# Altium schematic symbol library 74xx.SchLib: 245 symbols (part 2 of 2)
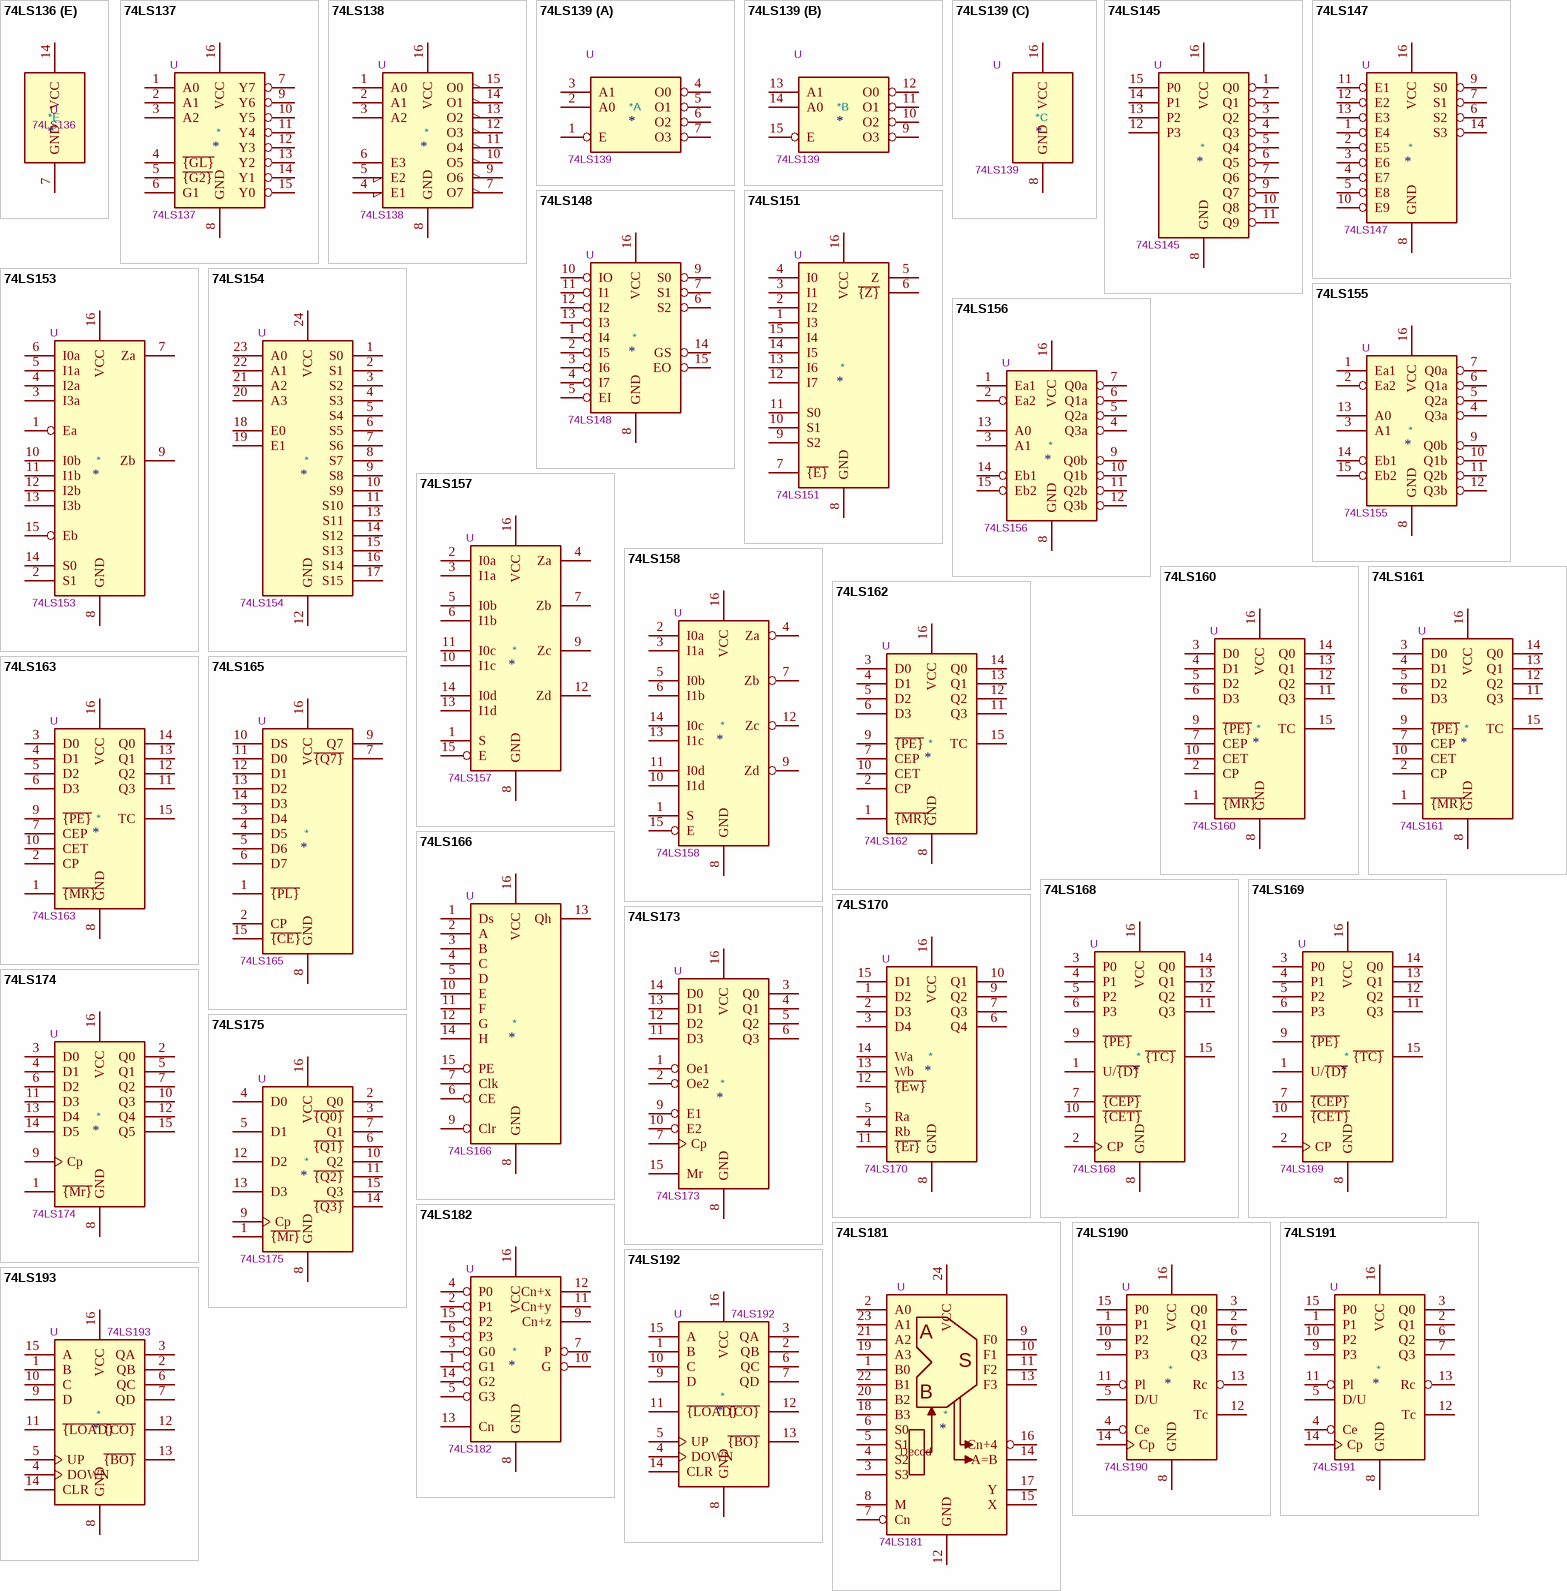
[diagram p14: symbols 74LS136 to 74LS193]

## 74LS136
designator *  value 74LS136  Reference: U
ki_keywords: TTL XOR2 OpenCol; ki_description: Quad 2-input XOR Open Collector; ki_fp_filters: DIP*W7.62mm*; Datasheet: http://www.ti.com/lit/ds/symlink/sn54ls136.pdf
part A pins: 1, 2, 3
part B pins: 4, 5, 6
part C pins: 8, 9, 10
part D pins: 11, 12, 13
part E pins: 7 GND, 14 VCC

## 74LS137
designator *  value 74LS137  Reference: U
ki_keywords: TTL DECOD8 DECOD; ki_description: Decoder 3 to 8, address latches; ki_fp_filters: DIP?16*; Datasheet: http://www.ti.com/lit/gpn/sn74LS137
pins: 1 A0, 2 A1, 3 A2, 4 ~{{GL}}, 5 ~{{G2}}, 6 G1, 7 Y7, 8 GND, 9 Y6, 10 Y5, 11 Y4, 12 Y3, 13 Y2, 14 Y1, 15 Y0, 16 VCC

## 74LS138
designator *  value 74LS138  Reference: U
ki_keywords: TTL DECOD DECOD8; ki_description: Decoder 3 to 8 active low outputs; ki_fp_filters: DIP?16*; Datasheet: http://www.ti.com/lit/gpn/sn74LS138
pins: 1 A0, 2 A1, 3 A2, 4 E1, 5 E2, 6 E3, 7 O7, 8 GND, 9 O6, 10 O5, 11 O4, 12 O3, 13 O2, 14 O1, 15 O0, 16 VCC

## 74LS139
designator *  value 74LS139  Reference: U
ki_keywords: TTL DECOD4; ki_description: Dual Decoder 1 of 4, Active low outputs; ki_fp_filters: DIP?16*; Datasheet: http://www.ti.com/lit/ds/symlink/sn74ls139a.pdf
part A pins: 1 E, 2 A0, 3 A1, 4 O0, 5 O1, 6 O2, 7 O3
part B pins: 9 O3, 10 O2, 11 O1, 12 O0, 13 A1, 14 A0, 15 E
part C pins: 8 GND, 16 VCC

## 74LS145
designator *  value 74LS145  Reference: U
ki_keywords: TTL DECOD10 OpenColl; ki_description: Decoder 1 to 10, Open Collector; ki_fp_filters: DIP?16*; Datasheet: http://www.ti.com/lit/gpn/sn74LS145
pins: 1 Q0, 2 Q1, 3 Q2, 4 Q3, 5 Q4, 6 Q5, 7 Q6, 8 GND, 9 Q7, 10 Q8, 11 Q9, 12 P3, 13 P2, 14 P1, 15 P0, 16 VCC

## 74LS147
designator *  value 74LS147  Reference: U
ki_keywords: TTL ENCOD; ki_description: Priority Encoder, 10 to 4; ki_fp_filters: DIP?16*; Datasheet: http://www.ti.com/lit/gpn/sn74LS147
pins: 1 E4, 2 E5, 3 E6, 4 E7, 5 E8, 6 S2, 7 S1, 8 GND, 9 S0, 10 E9, 11 E1, 12 E2, 13 E3, 14 S3, 16 VCC

## 74LS148
designator *  value 74LS148  Reference: U
ki_keywords: TTL ENCOD; ki_description: Priority Encoder 3 to 8 cascadable; ki_fp_filters: DIP?16*; Datasheet: http://www.ti.com/lit/gpn/sn74LS148
pins: 1 I4, 2 I5, 3 I6, 4 I7, 5 EI, 6 S2, 7 S1, 8 GND, 9 S0, 10 IO, 11 I1, 12 I2, 13 I3, 14 GS, 15 EO, 16 VCC

## 74LS151
designator *  value 74LS151  Reference: U
ki_keywords: TTL MUX8; ki_description: Multiplexer 8 to 1; ki_fp_filters: DIP?16*; Datasheet: http://www.ti.com/lit/gpn/sn74LS151
pins: 1 I3, 2 I2, 3 I1, 4 I0, 5 Z, 6 ~{{Z}}, 7 ~{{E}}, 8 GND, 9 S2, 10 S1, 11 S0, 12 I7, 13 I6, 14 I5, 15 I4, 16 VCC

## 74LS153
designator *  value 74LS153  Reference: U
ki_keywords: TTL Mux4; ki_description: Dual Multiplexer 4 to 1; ki_fp_filters: DIP?16*; Datasheet: http://www.ti.com/lit/gpn/sn74LS153
pins: 1 Ea, 2 S1, 3 I3a, 4 I2a, 5 I1a, 6 I0a, 7 Za, 8 GND, 9 Zb, 10 I0b, 11 I1b, 12 I2b, 13 I3b, 14 S0, 15 Eb, 16 VCC

## 74LS154
designator *  value 74LS154  Reference: U
ki_keywords: TTL DECOD16 DECOD; ki_description: Decoder 4 to 16; ki_fp_filters: DIP?24*; Datasheet: http://www.ti.com/lit/gpn/sn74LS154
pins: 1 S0, 2 S1, 3 S2, 4 S3, 5 S4, 6 S5, 7 S6, 8 S7, 9 S8, 10 S9, 11 S10, 12 GND, 13 S11, 14 S12, 15 S13, 16 S14, 17 S15, 18 E0, 19 E1, 20 A3, 21 A2, 22 A1, 23 A0, 24 VCC

## 74LS155
designator *  value 74LS155  Reference: U
ki_keywords: TTL DECOD8 DECOD4 DEMUX4 DEMUX8 DEMUX DECOD; ki_description: Dual 2 to 4 lines Decoder/Demultiplexer; ki_fp_filters: DIP?16*; Datasheet: http://www.ti.com/lit/gpn/sn74LS155
pins: 1 Ea1, 2 Ea2, 3 A1, 4 Q3a, 5 Q2a, 6 Q1a, 7 Q0a, 8 GND, 9 Q0b, 10 Q1b, 11 Q2b, 12 Q3b, 13 A0, 14 Eb1, 15 Eb2, 16 VCC

## 74LS156
designator *  value 74LS156  Reference: U
ki_keywords: TTL DECOD8 DECOD4 DEMUX4 DEMUX8 OpenCol; ki_description: Dual 2 to 4 lines Decoder/Demultiplexer, Open Collector; ki_fp_filters: DIP?16*; Datasheet: http://www.ti.com/lit/gpn/sn74LS156
pins: 1 Ea1, 2 Ea2, 3 A1, 4 Q3a, 5 Q2a, 6 Q1a, 7 Q0a, 8 GND, 9 Q0b, 10 Q1b, 11 Q2b, 12 Q3b, 13 A0, 14 Eb1, 15 Eb2, 16 VCC

## 74LS157
designator *  value 74LS157  Reference: U
ki_keywords: TTL MUX MUX2; ki_description: Quad 2 to 1 line Multiplexer; ki_fp_filters: DIP?16*; Datasheet: http://www.ti.com/lit/gpn/sn74LS157
pins: 1 S, 2 I0a, 3 I1a, 4 Za, 5 I0b, 6 I1b, 7 Zb, 8 GND, 9 Zc, 10 I1c, 11 I0c, 12 Zd, 13 I1d, 14 I0d, 15 E, 16 VCC

## 74LS158
designator *  value 74LS158  Reference: U
ki_keywords: TTL Mux MUX2; ki_description: Quad 2 to 1 multiplexer; ki_fp_filters: DIP?16*; Datasheet: http://www.ti.com/lit/gpn/sn74LS158
pins: 1 S, 2 I0a, 3 I1a, 4 Za, 5 I0b, 6 I1b, 7 Zb, 8 GND, 9 Zd, 10 I1d, 11 I0d, 12 Zc, 13 I1c, 14 I0c, 15 E, 16 VCC

## 74LS160
designator *  value 74LS160  Reference: U
ki_keywords: TTL CNT CNT4; ki_description: Synchronous 4-bit programmable decimal Counter; ki_fp_filters: DIP?16*; Datasheet: http://www.ti.com/lit/gpn/sn74LS160
pins: 1 ~{{MR}}, 2 CP, 3 D0, 4 D1, 5 D2, 6 D3, 7 CEP, 8 GND, 9 ~{{PE}}, 10 CET, 11 Q3, 12 Q2, 13 Q1, 14 Q0, 15 TC, 16 VCC

## 74LS161
designator *  value 74LS161  Reference: U
ki_keywords: TTL CNT CNT4; ki_description: Synchronous 4-bit programmable binary Counter; ki_fp_filters: DIP?16*; Datasheet: http://www.ti.com/lit/gpn/sn74LS161
pins: 1 ~{{MR}}, 2 CP, 3 D0, 4 D1, 5 D2, 6 D3, 7 CEP, 8 GND, 9 ~{{PE}}, 10 CET, 11 Q3, 12 Q2, 13 Q1, 14 Q0, 15 TC, 16 VCC

## 74LS162
designator *  value 74LS162  Reference: U
ki_keywords: TTL CNT CNT4; ki_description: Synchronous 4-bit programmable decimal Counter; ki_fp_filters: DIP?16*; Datasheet: http://www.ti.com/lit/gpn/sn74LS162
pins: 1 ~{{MR}}, 2 CP, 3 D0, 4 D1, 5 D2, 6 D3, 7 CEP, 8 GND, 9 ~{{PE}}, 10 CET, 11 Q3, 12 Q2, 13 Q1, 14 Q0, 15 TC, 16 VCC

## 74LS163
designator *  value 74LS163  Reference: U
ki_keywords: TTL CNT CNT4; ki_description: Synchronous 4-bit programmable binary Counter; ki_fp_filters: DIP?16*; Datasheet: http://www.ti.com/lit/gpn/sn74LS163
pins: 1 ~{{MR}}, 2 CP, 3 D0, 4 D1, 5 D2, 6 D3, 7 CEP, 8 GND, 9 ~{{PE}}, 10 CET, 11 Q3, 12 Q2, 13 Q1, 14 Q0, 15 TC, 16 VCC

## 74LS165
designator *  value 74LS165  Reference: U
ki_keywords: TTL SR SR8; ki_description: Shift Register 8-bit, parallel load; ki_fp_filters: DIP?16* SO*16*3.9x9.9mm*P1.27mm* SSOP*16*5.3x6.2mm*P0.65mm* TSSOP*16*4.4x5mm*P0.65*; Datasheet: https://www.ti.com/lit/ds/symlink/sn74ls165a.pdf
pins: 1 ~{{PL}}, 2 CP, 3 D4, 4 D5, 5 D6, 6 D7, 7 ~{{Q7}}, 8 GND, 9 Q7, 10 DS, 11 D0, 12 D1, 13 D2, 14 D3, 15 ~{{CE}}, 16 VCC

## 74LS166
designator *  value 74LS166  Reference: U
ki_keywords: TTL SR SR8; ki_description: Shift Register 8-bit, parallel load; ki_fp_filters: DIP?16*; Datasheet: http://www.ti.com/lit/gpn/sn74LS166
pins: 1 Ds, 2 A, 3 B, 4 C, 5 D, 6 CE, 7 Clk, 8 GND, 9 Clr, 10 E, 11 F, 12 G, 13 Qh, 14 H, 15 PE, 16 VCC

## 74LS168
designator *  value 74LS168  Reference: U
ki_keywords: TTL CNT CNT4; ki_description: Synchronous 4-bit Up/Down Decimal counter; ki_fp_filters: DIP?16*; Datasheet: http://www.ti.com/lit/gpn/sn74LS168
pins: 1 U/~{{D}}, 2 CP, 3 P0, 4 P1, 5 P2, 6 P3, 7 ~{{CEP}}, 8 GND, 9 ~{{PE}}, 10 ~{{CET}}, 11 Q3, 12 Q2, 13 Q1, 14 Q0, 15 ~{{TC}}, 16 VCC

## 74LS169
designator *  value 74LS169  Reference: U
ki_keywords: TTL CNT CNT4; ki_description: Synchronous 4-bit Up/Down binary counter; ki_fp_filters: DIP?16*; Datasheet: http://www.ti.com/lit/gpn/sn74LS169
pins: 1 U/~{{D}}, 2 CP, 3 P0, 4 P1, 5 P2, 6 P3, 7 ~{{CEP}}, 8 GND, 9 ~{{PE}}, 10 ~{{CET}}, 11 Q3, 12 Q2, 13 Q1, 14 Q0, 15 ~{{TC}}, 16 VCC

## 74LS170
designator *  value 74LS170  Reference: U
ki_keywords: TTL Register OpenCol; ki_description: 4 x 4 Register Files Open Collector; ki_fp_filters: DIP?16*; Datasheet: http://www.ti.com/lit/gpn/sn74LS170
pins: 1 D2, 2 D3, 3 D4, 4 Rb, 5 Ra, 6 Q4, 7 Q3, 8 GND, 9 Q2, 10 Q1, 11 ~{{Er}}, 12 ~{{Ew}}, 13 Wb, 14 Wa, 15 D1, 16 VCC

## 74LS173
designator *  value 74LS173  Reference: U
ki_keywords: TTL REG REG4 3State DFF; ki_description: 4-bit D-type Register, 3 state out; ki_fp_filters: DIP?16*; Datasheet: http://www.ti.com/lit/gpn/sn74LS173
pins: 1 Oe1, 2 Oe2, 3 Q0, 4 Q1, 5 Q2, 6 Q3, 7 Cp, 8 GND, 9 E1, 10 E2, 11 D3, 12 D2, 13 D1, 14 D0, 15 Mr, 16 VCC

## 74LS174
designator *  value 74LS174  Reference: U
ki_keywords: TTL REG REG6 DFF; ki_description: Hex D-type Flip-Flop, reset; ki_fp_filters: DIP?16*; Datasheet: http://www.ti.com/lit/gpn/sn74LS174
pins: 1 ~{{Mr}}, 2 Q0, 3 D0, 4 D1, 5 Q1, 6 D2, 7 Q2, 8 GND, 9 Cp, 10 Q3, 11 D3, 12 Q4, 13 D4, 14 D5, 15 Q5, 16 VCC

## 74LS175
designator *  value 74LS175  Reference: U
ki_keywords: TTL REG REG4 DFF; ki_description: 4-bit D Flip-Flop, reset; ki_fp_filters: DIP?16*; Datasheet: http://www.ti.com/lit/gpn/sn74LS175
pins: 1 ~{{Mr}}, 2 Q0, 3 ~{{Q0}}, 4 D0, 5 D1, 6 ~{{Q1}}, 7 Q1, 8 GND, 9 Cp, 10 Q2, 11 ~{{Q2}}, 12 D2, 13 D3, 14 ~{{Q3}}, 15 Q3, 16 VCC

## 74LS181
designator *  value 74LS181  Reference: U
ki_keywords: TTL ALU ARITH; ki_description: Arithmetic logic unit; ki_fp_filters: DIP?24*; Datasheet: 74xx/74F181.pdf
pins: 1 B0, 2 A0, 3 S3, 4 S2, 5 S1, 6 S0, 7 Cn, 8 M, 9 F0, 10 F1, 11 F2, 12 GND, 13 F3, 14 A=B, 15 X, 16 Cn+4, 17 Y, 18 B3, 19 A3, 20 B2, 21 A2, 22 B1, 23 A1, 24 VCC
text: A; S; B; Decod

## 74LS182
designator *  value 74LS182  Reference: U
ki_keywords: TTL ALU ARITH; ki_description: Carry generator; ki_fp_filters: DIP?16*; Datasheet: http://www.ti.com/lit/gpn/sn74LS182
pins: 1 G1, 2 P1, 3 G0, 4 P0, 5 G3, 6 P3, 7 P, 8 GND, 9 Cn+z, 10 G, 11 Cn+y, 12 Cn+x, 13 Cn, 14 G2, 15 P2, 16 VCC

## 74LS190
designator *  value 74LS190  Reference: U
ki_keywords: TTL CNT CNT4; ki_description: 4-bit Synchronous Up/Down BCD Counter; ki_fp_filters: DIP?16*; Datasheet: http://www.ti.com/lit/gpn/sn74LS190
pins: 1 P1, 2 Q1, 3 Q0, 4 Ce, 5 D/U, 6 Q2, 7 Q3, 8 GND, 9 P3, 10 P2, 11 Pl, 12 Tc, 13 Rc, 14 Cp, 15 P0, 16 VCC

## 74LS191
designator *  value 74LS191  Reference: U
ki_keywords: TTL CNT CNT4; ki_description: 4-bit Synchronous Up/Down binary Counter; ki_fp_filters: DIP?16*; Datasheet: http://www.ti.com/lit/gpn/sn74LS191
pins: 1 P1, 2 Q1, 3 Q0, 4 Ce, 5 D/U, 6 Q2, 7 Q3, 8 GND, 9 P3, 10 P2, 11 Pl, 12 Tc, 13 Rc, 14 Cp, 15 P0, 16 VCC

## 74LS192
designator *  value 74LS192  Reference: U
ki_keywords: TTL CNT CNT4; ki_description: Synchronous 4-bit Up/Down (2 clk) counter; ki_fp_filters: SOIC*3.9x9.9mm*P1.27mm* DIP*W7.62mm*; Datasheet: http://www.ti.com/lit/ds/symlink/sn74ls193.pdf
pins: 1 B, 2 QB, 3 QA, 4 DOWN, 5 UP, 6 QC, 7 QD, 8 GND, 9 D, 10 C, 11 ~{{LOAD}}, 12 ~{{CO}}, 13 ~{{BO}}, 14 CLR, 15 A, 16 VCC

## 74LS193
designator *  value 74LS193  Reference: U
ki_keywords: TTL CNT CNT4; ki_description: Synchronous 4-bit Up/Down (2 clk) counter; ki_fp_filters: SOIC*3.9x9.9mm*P1.27mm* DIP*W7.62mm*; Datasheet: http://www.ti.com/lit/ds/symlink/sn74ls193.pdf
pins: 1 B, 2 QB, 3 QA, 4 DOWN, 5 UP, 6 QC, 7 QD, 8 GND, 9 D, 10 C, 11 ~{{LOAD}}, 12 ~{{CO}}, 13 ~{{BO}}, 14 CLR, 15 A, 16 VCC

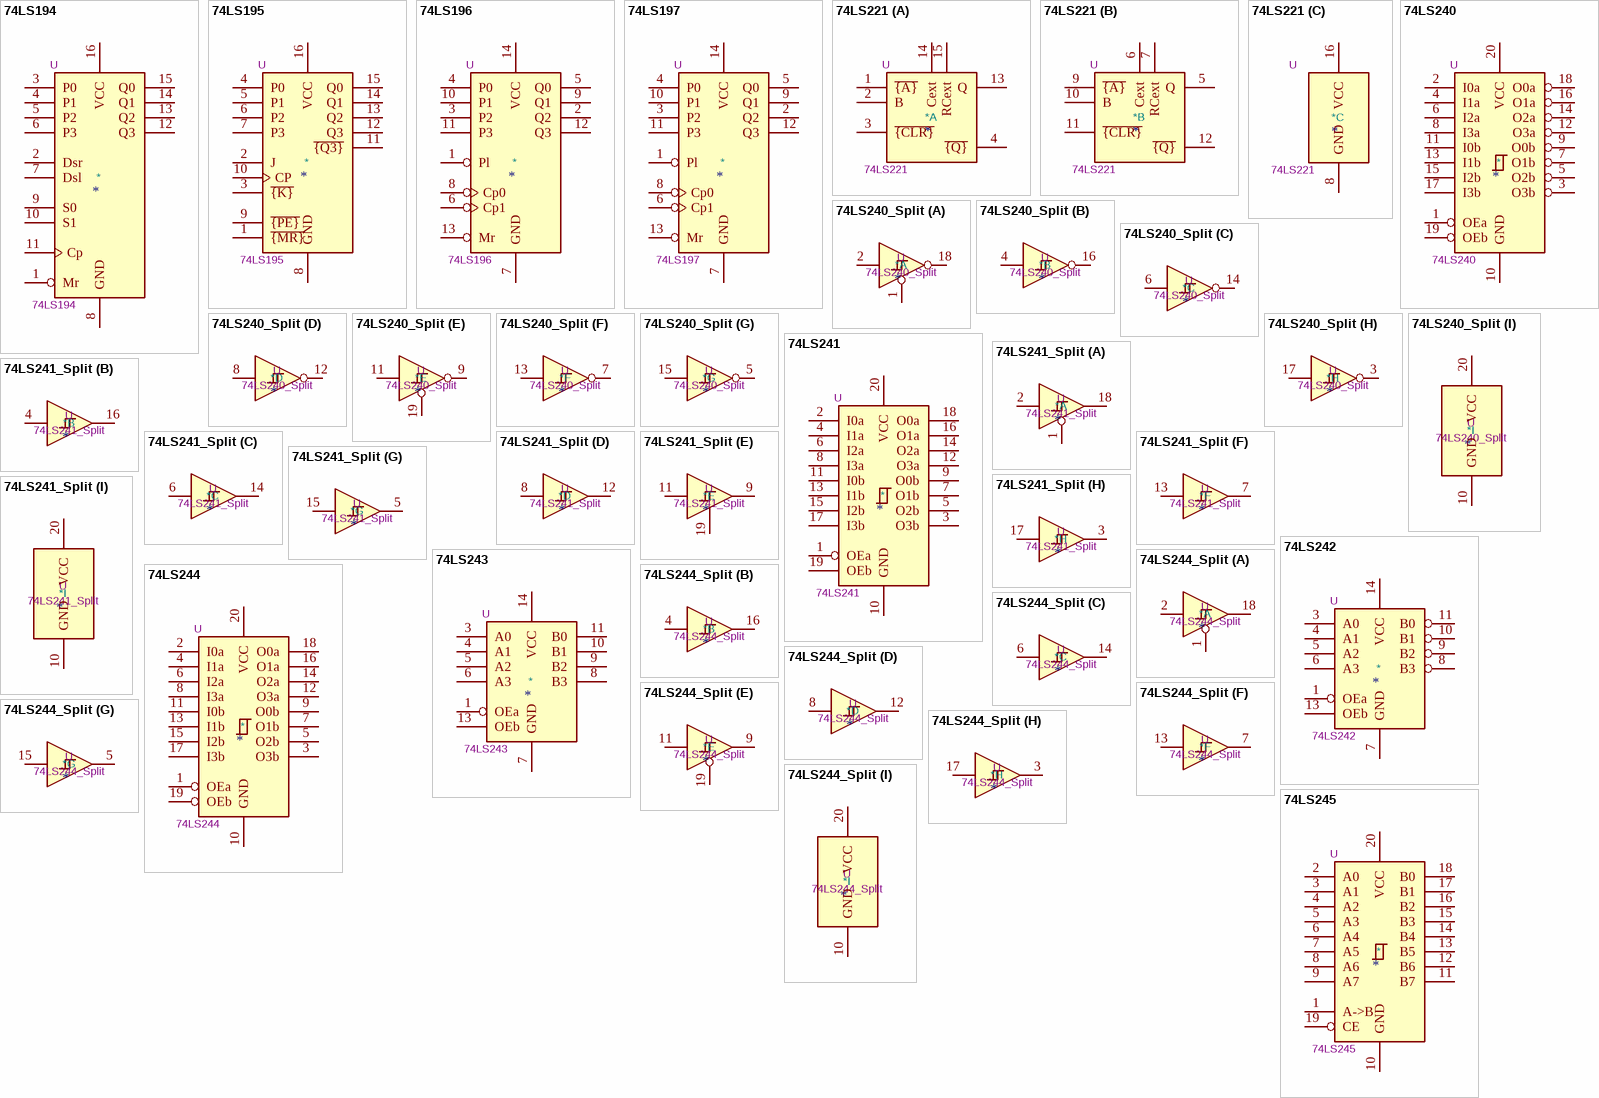
[diagram p10: symbols 74LS194 to 74LS245]

## 74LS194
designator *  value 74LS194  Reference: U
ki_keywords: TTL RS SR4; ki_description: Shift Register 4-bit Bidirectional; ki_fp_filters: DIP?16*; Datasheet: http://www.ti.com/lit/gpn/sn74LS194
pins: 1 Mr, 2 Dsr, 3 P0, 4 P1, 5 P2, 6 P3, 7 Dsl, 8 GND, 9 S0, 10 S1, 11 Cp, 12 Q3, 13 Q2, 14 Q1, 15 Q0, 16 VCC

## 74LS195
designator *  value 74LS195  Reference: U
ki_keywords: TTL SR SR4; ki_description: Shift Register 4-bit, parallel; ki_fp_filters: DIP?16*; Datasheet: http://www.ti.com/lit/gpn/sn74LS195
pins: 1 ~{{MR}}, 2 J, 3 ~{{K}}, 4 P0, 5 P1, 6 P2, 7 P3, 8 GND, 9 ~{{PE}}, 10 CP, 11 ~{{Q3}}, 12 Q3, 13 Q2, 14 Q1, 15 Q0, 16 VCC

## 74LS196
designator *  value 74LS196  Reference: U
ki_keywords: TTL CNT CNT4; ki_description: 4 (3+1)-bit presettable BCD counter; ki_fp_filters: DIP*W7.62mm*; Datasheet: http://www.ti.com/lit/gpn/sn74LS196
pins: 1 Pl, 2 Q2, 3 P2, 4 P0, 5 Q0, 6 Cp1, 7 GND, 8 Cp0, 9 Q1, 10 P1, 11 P3, 12 Q3, 13 Mr, 14 VCC

## 74LS197
designator *  value 74LS197  Reference: U
ki_keywords: TTL CNT CNT4; ki_description: 4 (3+1)-bit presettable binary counter; ki_fp_filters: DIP*W7.62mm*; Datasheet: http://www.ti.com/lit/gpn/sn74LS197
pins: 1 Pl, 2 Q2, 3 P2, 4 P0, 5 Q0, 6 Cp1, 7 GND, 8 Cp0, 9 Q1, 10 P1, 11 P3, 12 Q3, 13 Mr, 14 VCC

## 74LS221
designator *  value 74LS221  Reference: U
ki_keywords: TTL Monostable; ki_description: Dual Monostable; ki_fp_filters: DIP?16*; Datasheet: http://www.ti.com/lit/gpn/sn74LS221
part A pins: 1 ~{{A}}, 2 B, 3 ~{{CLR}}, 4 ~{{Q}}, 13 Q, 14 Cext, 15 RCext
part B pins: 5 Q, 6 Cext, 7 RCext, 9 ~{{A}}, 10 B, 11 ~{{CLR}}, 12 ~{{Q}}
part C pins: 8 GND, 16 VCC

## 74LS240
designator *  value 74LS240  Reference: U
ki_keywords: 7400 logic ttl low power schottky; ki_description: Octal Buffer and Line Driver With 3-State Output, active-low enables, inverting outputs; ki_fp_filters: DIP?20*; Datasheet: http://www.ti.com/lit/ds/symlink/sn74ls240.pdf
pins: 1 OEa, 2 I0a, 3 O3b, 4 I1a, 5 O2b, 6 I2a, 7 O1b, 8 I3a, 9 O0b, 10 GND, 11 I0b, 12 O3a, 13 I1b, 14 O2a, 15 I2b, 16 O1a, 17 I3b, 18 O0a, 19 OEb, 20 VCC

## 74LS240_Split
designator *  value 74LS240_Split  Reference: U
ki_keywords: 7400 logic ttl low power schottky; ki_description: Octal Buffer and Line Driver With 3-State Output, active-low enables, inverting outputs, split symbol; ki_fp_filters: DIP*W7.62mm* SOIC*7.5x12.8mm*P1.27mm* *SSOP*5.3x7.2mm*P0.65mm*; Datasheet: http://www.ti.com/lit/ds/symlink/sn74ls240.pdf
part A pins: 1, 2, 18
part B pins: 4, 16
part C pins: 6, 14
part D pins: 8, 12
part E pins: 9, 11, 19
part F pins: 7, 13
part G pins: 5, 15
part H pins: 3, 17
part I pins: 10 GND, 20 VCC

## 74LS241
designator *  value 74LS241  Reference: U
ki_keywords: 7400 logic ttl low power schottky; ki_description: Octal Buffer and Line Driver With 3-State Output, complementary enables, non-inverting outputs; ki_fp_filters: DIP?20*; Datasheet: http://www.ti.com/lit/ds/symlink/sn74ls241.pdf
pins: 1 OEa, 2 I0a, 3 O3b, 4 I1a, 5 O2b, 6 I2a, 7 O1b, 8 I3a, 9 O0b, 10 GND, 11 I0b, 12 O3a, 13 I1b, 14 O2a, 15 I2b, 16 O1a, 17 I3b, 18 O0a, 19 OEb, 20 VCC

## 74LS241_Split
designator *  value 74LS241_Split  Reference: U
ki_keywords: 7400 logic ttl low power schottky; ki_description: Octal Buffer and Line Driver With 3-State Output, complementary enables, non-inverting outputs, split symbol; ki_fp_filters: DIP*W7.62mm* SOIC*7.5x12.8mm*P1.27mm* *SSOP*5.3x7.2mm*P0.65mm*; Datasheet: http://www.ti.com/lit/ds/symlink/sn74ls241.pdf
part A pins: 1, 2, 18
part B pins: 4, 16
part C pins: 6, 14
part D pins: 8, 12
part E pins: 9, 11, 19
part F pins: 7, 13
part G pins: 5, 15
part H pins: 3, 17
part I pins: 10 GND, 20 VCC

## 74LS242
designator *  value 74LS242  Reference: U
ki_keywords: bus 3state; ki_description: quad bus transceiver, inverting 3-state outputs; ki_fp_filters: DIP?12*; Datasheet: http://www.ti.com/lit/gpn/sn74LS242
pins: 1 OEa, 3 A0, 4 A1, 5 A2, 6 A3, 7 GND, 8 B3, 9 B2, 10 B1, 11 B0, 13 OEb, 14 VCC

## 74LS243
designator *  value 74LS243  Reference: U
ki_keywords: TTL Buffer 3State BUS BIDI; ki_description: 4-bit Bus Transceiver; ki_fp_filters: DIP?12*; Datasheet: http://www.ti.com/lit/gpn/sn74LS243
pins: 1 OEa, 3 A0, 4 A1, 5 A2, 6 A3, 7 GND, 8 B3, 9 B2, 10 B1, 11 B0, 13 OEb, 14 VCC

## 74LS244
designator *  value 74LS244  Reference: U
ki_keywords: 7400 logic ttl low power schottky; ki_description: Octal Buffer and Line Driver With 3-State Output, active-low enables, non-inverting outputs; ki_fp_filters: DIP?20*; Datasheet: http://www.ti.com/lit/ds/symlink/sn74ls244.pdf
pins: 1 OEa, 2 I0a, 3 O3b, 4 I1a, 5 O2b, 6 I2a, 7 O1b, 8 I3a, 9 O0b, 10 GND, 11 I0b, 12 O3a, 13 I1b, 14 O2a, 15 I2b, 16 O1a, 17 I3b, 18 O0a, 19 OEb, 20 VCC

## 74LS244_Split
designator *  value 74LS244_Split  Reference: U
ki_keywords: 7400 logic ttl low power schottky; ki_description: Octal Buffer and Line Driver With 3-State Output, active-low enables, non-inverting outputs, split symbol; ki_fp_filters: DIP*W7.62mm* SOIC*7.5x12.8mm*P1.27mm* *SSOP*5.3x7.2mm*P0.65mm*; Datasheet: http://www.ti.com/lit/ds/symlink/sn74ls241.pdf
part A pins: 1, 2, 18
part B pins: 4, 16
part C pins: 6, 14
part D pins: 8, 12
part E pins: 9, 11, 19
part F pins: 7, 13
part G pins: 5, 15
part H pins: 3, 17
part I pins: 10 GND, 20 VCC

## 74LS245
designator *  value 74LS245  Reference: U
ki_keywords: TTL BUS 3State; ki_description: Octal BUS Transceivers, 3-State outputs; ki_fp_filters: DIP?20*; Datasheet: http://www.ti.com/lit/gpn/sn74LS245
pins: 1 A->B, 2 A0, 3 A1, 4 A2, 5 A3, 6 A4, 7 A5, 8 A6, 9 A7, 10 GND, 11 B7, 12 B6, 13 B5, 14 B4, 15 B3, 16 B2, 17 B1, 18 B0, 19 CE, 20 VCC

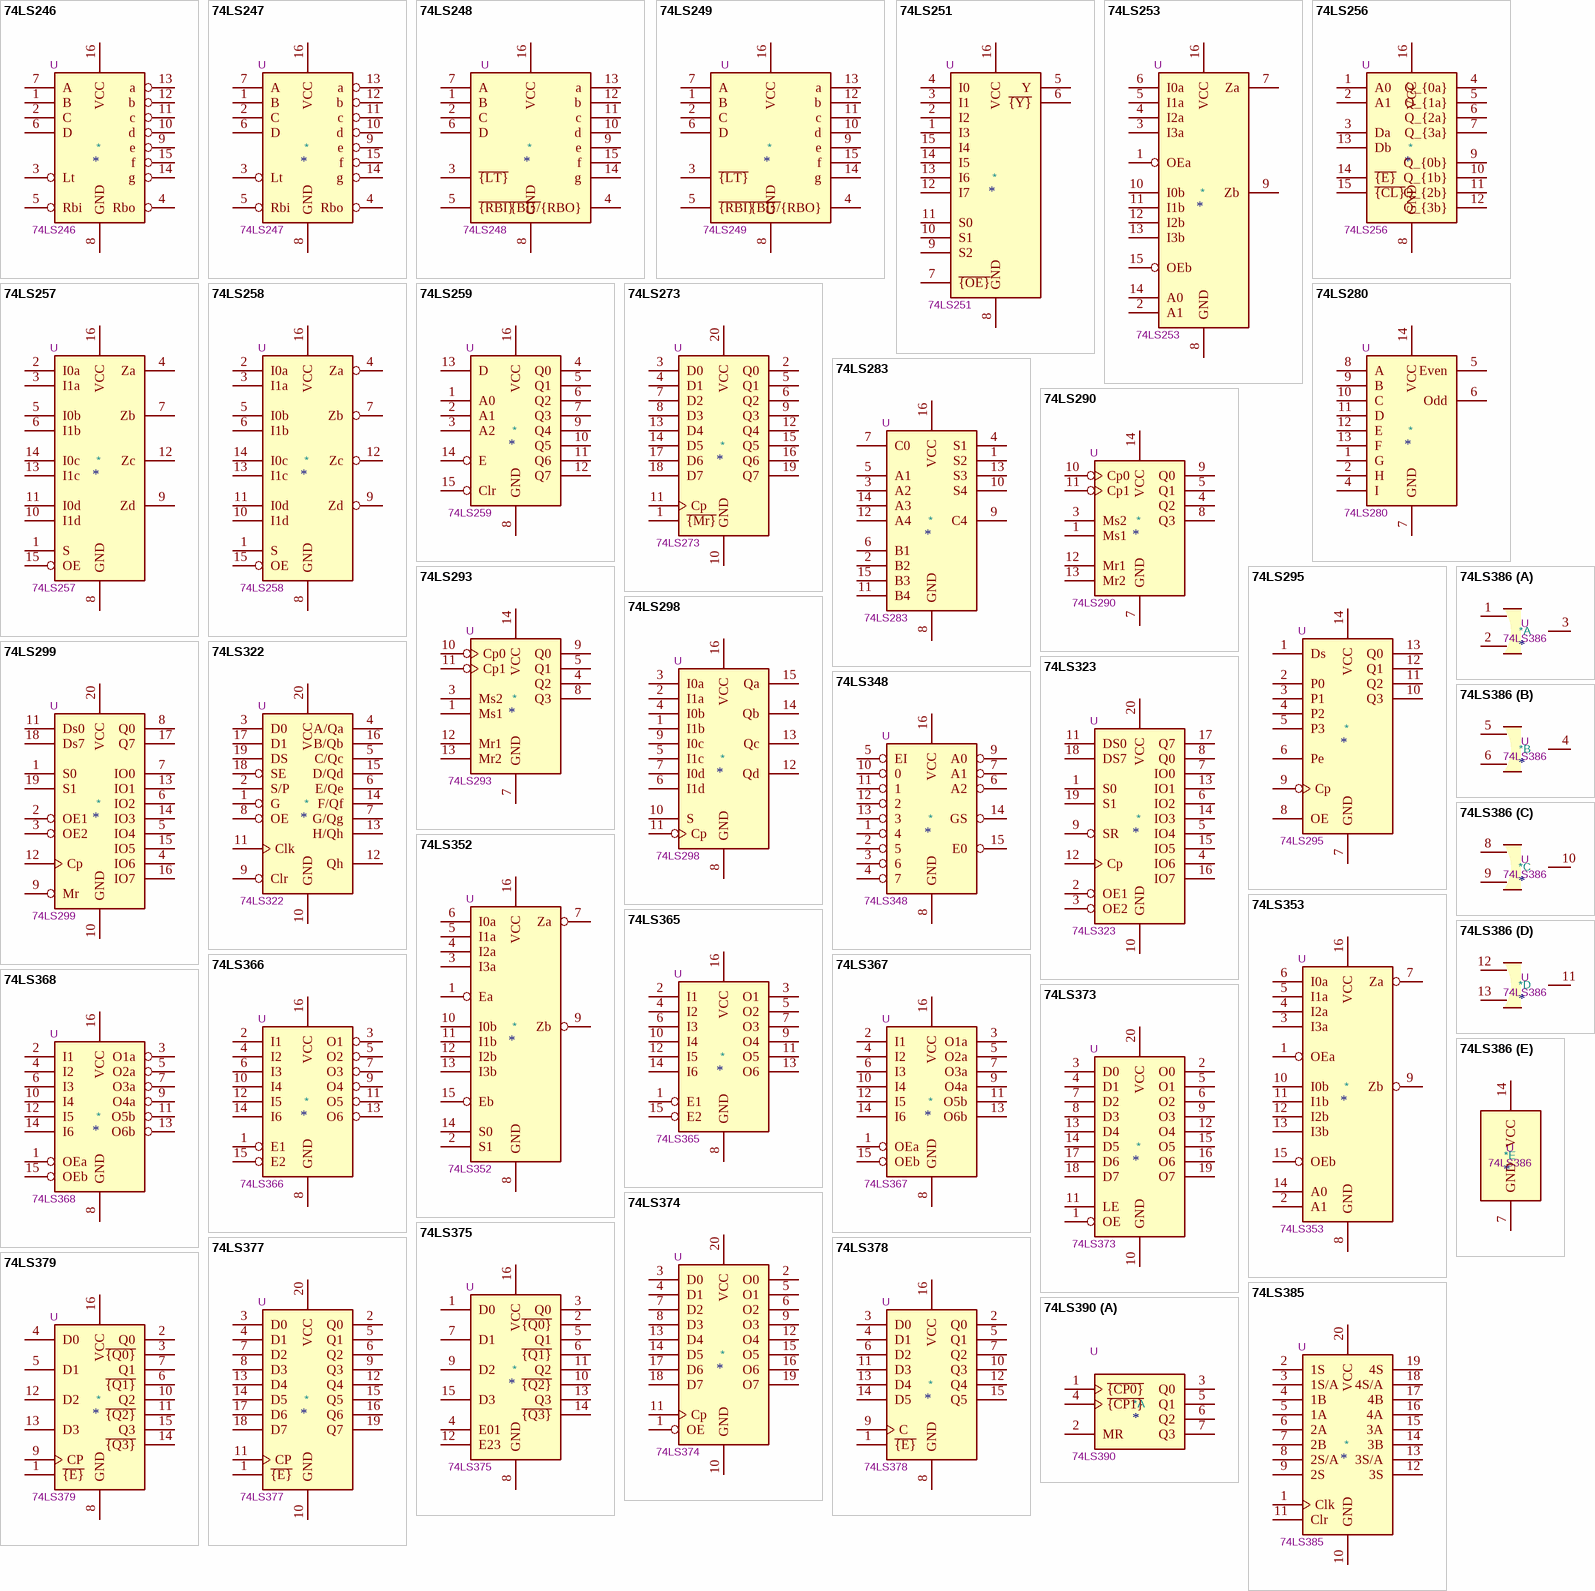
[diagram p11: symbols 74LS246 to 74LS390]

## 74LS246
designator *  value 74LS246  Reference: U
ki_keywords: TTL DECOD; ki_description: BCD to 7-segment Decoder Open Collector active Low; ki_fp_filters: DIP?16*; Datasheet: http://www.ti.com/lit/gpn/sn74LS246
pins: 1 B, 2 C, 3 Lt, 4 Rbo, 5 Rbi, 6 D, 7 A, 8 GND, 9 e, 10 d, 11 c, 12 b, 13 a, 14 g, 15 f, 16 VCC

## 74LS247
designator *  value 74LS247  Reference: U
ki_keywords: TTL DECOD; ki_description: BCD to 7 segments Decoder Open Collector active Low; ki_fp_filters: DIP?16*; Datasheet: http://www.ti.com/lit/gpn/sn74LS247
pins: 1 B, 2 C, 3 Lt, 4 Rbo, 5 Rbi, 6 D, 7 A, 8 GND, 9 e, 10 d, 11 c, 12 b, 13 a, 14 g, 15 f, 16 VCC

## 74LS248
designator *  value 74LS248  Reference: U
ki_keywords: TTL DECOD; ki_description: BCD to 7-segment Decoder, Active High; ki_fp_filters: DIP?16*; Datasheet: http://www.ti.com/lit/gpn/sn74LS248
pins: 1 B, 2 C, 3 ~{{LT}}, 4 ~{{BI}/}{RBO}, 5 ~{{RBI}}, 6 D, 7 A, 8 GND, 9 e, 10 d, 11 c, 12 b, 13 a, 14 g, 15 f, 16 VCC

## 74LS249
designator *  value 74LS249  Reference: U
ki_keywords: TTL DECOD OpenCol; ki_description: BCD to 7-segment Decoder, Open collector, Active High; ki_fp_filters: DIP?16*; Datasheet: http://www.ti.com/lit/gpn/sn74LS249
pins: 1 B, 2 C, 3 ~{{LT}}, 4 ~{{BI}/}{RBO}, 5 ~{{RBI}}, 6 D, 7 A, 8 GND, 9 e, 10 d, 11 c, 12 b, 13 a, 14 g, 15 f, 16 VCC

## 74LS251
designator *  value 74LS251  Reference: U
ki_keywords: TTL MUX MUX8 3State; ki_description: Multiplexer 8 to 1, 3-state Outputs; ki_fp_filters: DIP?16*; Datasheet: http://www.ti.com/lit/gpn/sn74LS251
pins: 1 I3, 2 I2, 3 I1, 4 I0, 5 Y, 6 ~{{Y}}, 7 ~{{OE}}, 8 GND, 9 S2, 10 S1, 11 S0, 12 I7, 13 I6, 14 I5, 15 I4, 16 VCC

## 74LS253
designator *  value 74LS253  Reference: U
ki_keywords: TTL MUX MUX4 3State; ki_description: Dual Multiplexer 4 to 1, 3-State Outputs; ki_fp_filters: DIP?16*; Datasheet: http://www.ti.com/lit/gpn/sn74LS253
pins: 1 OEa, 2 A1, 3 I3a, 4 I2a, 5 I1a, 6 I0a, 7 Za, 8 GND, 9 Zb, 10 I0b, 11 I1b, 12 I2b, 13 I3b, 14 A0, 15 OEb, 16 VCC

## 74LS256
designator *  value 74LS256  Reference: U
ki_keywords: latch; ki_description: dual 4-bit addressable latch; ki_fp_filters: DIP?16*; Datasheet: https://alfter.us/wp-content/uploads/2022/12/74LS256.pdf
pins: 1 A0, 2 A1, 3 Da, 4 Q_{0a}, 5 Q_{1a}, 6 Q_{2a}, 7 Q_{3a}, 8 GND, 9 Q_{0b}, 10 Q_{1b}, 11 Q_{2b}, 12 Q_{3b}, 13 Db, 14 ~{{E}}, 15 ~{{CL}}, 16 VCC

## 74LS257
designator *  value 74LS257  Reference: U
ki_keywords: TTL MUX MUX2; ki_description: Quad 2 to 1 Multiplexer; ki_fp_filters: DIP?16*; Datasheet: http://www.ti.com/lit/gpn/sn74LS257
pins: 1 S, 2 I0a, 3 I1a, 4 Za, 5 I0b, 6 I1b, 7 Zb, 8 GND, 9 Zd, 10 I1d, 11 I0d, 12 Zc, 13 I1c, 14 I0c, 15 OE, 16 VCC

## 74LS258
designator *  value 74LS258  Reference: U
ki_keywords: TTL MUX MUX2; ki_description: Quad 2 to 1 Multiplexer, inverting; ki_fp_filters: DIP?16*; Datasheet: http://www.ti.com/lit/gpn/sn74LS258
pins: 1 S, 2 I0a, 3 I1a, 4 Za, 5 I0b, 6 I1b, 7 Zb, 8 GND, 9 Zd, 10 I1d, 11 I0d, 12 Zc, 13 I1c, 14 I0c, 15 OE, 16 VCC

## 74LS259
designator *  value 74LS259  Reference: U
ki_keywords: TTL REG DFF; ki_description: 8-bit addressable latch; ki_fp_filters: DIP?16*; Datasheet: http://www.ti.com/lit/gpn/sn74LS259
pins: 1 A0, 2 A1, 3 A2, 4 Q0, 5 Q1, 6 Q2, 7 Q3, 8 GND, 9 Q4, 10 Q5, 11 Q6, 12 Q7, 13 D, 14 E, 15 Clr, 16 VCC

## 74LS273
designator *  value 74LS273  Reference: U
ki_keywords: TTL DFF DFF8; ki_description: 8-bit D Flip-Flop, reset; ki_fp_filters: DIP?20* SO?20* SOIC?20*; Datasheet: http://www.ti.com/lit/gpn/sn74LS273
pins: 1 ~{{Mr}}, 2 Q0, 3 D0, 4 D1, 5 Q1, 6 Q2, 7 D2, 8 D3, 9 Q3, 10 GND, 11 Cp, 12 Q4, 13 D4, 14 D5, 15 Q5, 16 Q6, 17 D6, 18 D7, 19 Q7, 20 VCC

## 74LS280
designator *  value 74LS280  Reference: U
ki_keywords: TTL ALU Arith; ki_description: Parity Generator/Checker; ki_fp_filters: DIP*W7.62mm*; Datasheet: http://www.ti.com/lit/gpn/sn74LS280
pins: 1 G, 2 H, 3 NC hidden, 4 I, 5 Even, 6 Odd, 7 GND, 8 A, 9 B, 10 C, 11 D, 12 E, 13 F, 14 VCC

## 74LS283
designator *  value 74LS283  Reference: U
ki_keywords: TTL ADD Arith ALU; ki_description: 4-bit full Adder; ki_fp_filters: DIP?16*; Datasheet: http://www.ti.com/lit/gpn/sn74LS283
pins: 1 S2, 2 B2, 3 A2, 4 S1, 5 A1, 6 B1, 7 C0, 8 GND, 9 C4, 10 S4, 11 B4, 12 A4, 13 S3, 14 A3, 15 B3, 16 VCC

## 74LS290
designator *  value 74LS290  Reference: U
ki_keywords: TTL CNT CNT4; ki_description: 4-bit BCD counter; ki_fp_filters: DIP?12*; Datasheet: http://www.ti.com/lit/gpn/sn74LS290
pins: 1 Ms1, 3 Ms2, 4 Q2, 5 Q1, 7 GND, 8 Q3, 9 Q0, 10 Cp0, 11 Cp1, 12 Mr1, 13 Mr2, 14 VCC

## 74LS293
designator *  value 74LS293  Reference: U
ki_keywords: TTL CNT CNT4; ki_description: 4-bit binary counter; ki_fp_filters: DIP?12*; Datasheet: http://www.ti.com/lit/gpn/sn74LS293
pins: 1 Ms1, 3 Ms2, 4 Q2, 5 Q1, 7 GND, 8 Q3, 9 Q0, 10 Cp0, 11 Cp1, 12 Mr1, 13 Mr2, 14 VCC

## 74LS295
designator *  value 74LS295  Reference: U
ki_keywords: register; ki_description: 4-bit bidirectional register, 3-state outputs; ki_fp_filters: DIP*W7.62mm*; Datasheet: http://www.ti.com/lit/gpn/sn74LS295
pins: 1 Ds, 2 P0, 3 P1, 4 P2, 5 P3, 6 Pe, 7 GND, 8 OE, 9 Cp, 10 Q3, 11 Q2, 12 Q1, 13 Q0, 14 VCC

## 74LS298
designator *  value 74LS298  Reference: U
ki_keywords: TTL MUX MUX2; ki_description: Quad 2 to 1 multiplexer with storage; ki_fp_filters: DIP?16*; Datasheet: http://www.ti.com/lit/gpn/sn74LS298
pins: 1 I1b, 2 I1a, 3 I0a, 4 I0b, 5 I1c, 6 I1d, 7 I0d, 8 GND, 9 I0c, 10 S, 11 Cp, 12 Qd, 13 Qc, 14 Qb, 15 Qa, 16 VCC

## 74LS299
designator *  value 74LS299  Reference: U
ki_keywords: TTL REG SR SR8; ki_description: 8-bit Universal shift/storage Register; ki_fp_filters: DIP?20*; Datasheet: http://www.ti.com/lit/gpn/sn74LS299
pins: 1 S0, 2 OE1, 3 OE2, 4 IO6, 5 IO4, 6 IO2, 7 IO0, 8 Q0, 9 Mr, 10 GND, 11 Ds0, 12 Cp, 13 IO1, 14 IO3, 15 IO5, 16 IO7, 17 Q7, 18 Ds7, 19 S1, 20 VCC

## 74LS322
designator *  value 74LS322  Reference: U
ki_keywords: register; ki_description: 8-bit shift register, sign extend, 3-state outputs; ki_fp_filters: DIP?20*; Datasheet: http://www.ti.com/lit/gpn/sn74LS322
pins: 1 G, 2 S/P, 3 D0, 4 A/Qa, 5 C/Qc, 6 E/Qe, 7 G/Qg, 8 OE, 9 Clr, 10 GND, 11 Clk, 12 Qh, 13 H/Qh, 14 F/Qf, 15 D/Qd, 16 B/Qb, 17 D1, 18 SE, 19 DS, 20 VCC

## 74LS323
designator *  value 74LS323  Reference: U
ki_keywords: TTL REG SR SR8; ki_description: 8-bit Universal Shift/Storage Register; ki_fp_filters: DIP?20*; Datasheet: http://www.ti.com/lit/gpn/sn74LS323
pins: 1 S0, 2 OE1, 3 OE2, 4 IO6, 5 IO4, 6 IO2, 7 IO0, 8 Q0, 9 SR, 10 GND, 11 DS0, 12 Cp, 13 IO1, 14 IO3, 15 IO5, 16 IO7, 17 Q7, 18 DS7, 19 S1, 20 VCC

## 74LS348
designator *  value 74LS348  Reference: U
ki_keywords: TTL ENCOD Arith; ki_description: 8 to 3 lines Priority Encoder; ki_fp_filters: DIP?16*; Datasheet: http://www.ti.com/lit/gpn/sn74LS348
pins: 1 4, 2 5, 3 6, 4 7, 5 EI, 6 A2, 7 A1, 8 GND, 9 A0, 10 0, 11 1, 12 2, 13 3, 14 GS, 15 E0, 16 VCC

## 74LS352
designator *  value 74LS352  Reference: U
ki_keywords: TTL Mux MUX4; ki_description: Dual 4 to 1 line Multiplexer; ki_fp_filters: DIP?16*; Datasheet: http://www.ti.com/lit/gpn/sn74LS352
pins: 1 Ea, 2 S1, 3 I3a, 4 I2a, 5 I1a, 6 I0a, 7 Za, 8 GND, 9 Zb, 10 I0b, 11 I1b, 12 I2b, 13 I3b, 14 S0, 15 Eb, 16 VCC

## 74LS353
designator *  value 74LS353  Reference: U
ki_keywords: TTL MUX MUX2; ki_description: Dual 4 to 1 line Multiplexer, inverter; ki_fp_filters: DIP?16*; Datasheet: http://www.ti.com/lit/gpn/sn74LS353
pins: 1 OEa, 2 A1, 3 I3a, 4 I2a, 5 I1a, 6 I0a, 7 Za, 8 GND, 9 Zb, 10 I0b, 11 I1b, 12 I2b, 13 I3b, 14 A0, 15 OEb, 16 VCC

## 74LS365
designator *  value 74LS365  Reference: U
ki_keywords: TTL Buffer BUS 3State; ki_description: Hex Bus Driver, 3-State Outputs; ki_fp_filters: DIP?16*; Datasheet: http://www.ti.com/lit/gpn/sn74LS365
pins: 1 E1, 2 I1, 3 O1, 4 I2, 5 O2, 6 I3, 7 O3, 8 GND, 9 O4, 10 I4, 11 O5, 12 I5, 13 O6, 14 I6, 15 E2, 16 VCC

## 74LS366
designator *  value 74LS366  Reference: U
ki_keywords: TTL Buffer BUS 3State; ki_description: Hex Bus Driver inverter, 3-state outputs; ki_fp_filters: DIP?16*; Datasheet: http://www.ti.com/lit/gpn/sn74LS366
pins: 1 E1, 2 I1, 3 O1, 4 I2, 5 O2, 6 I3, 7 O3, 8 GND, 9 O4, 10 I4, 11 O5, 12 I5, 13 O6, 14 I6, 15 E2, 16 VCC

## 74LS367
designator *  value 74LS367  Reference: U
ki_keywords: TTL Buffer BUS 3State; ki_description: Hex Bus Driver 3-state outputs; ki_fp_filters: DIP?16*; Datasheet: http://www.ti.com/lit/gpn/sn74LS367
pins: 1 OEa, 2 I1, 3 O1a, 4 I2, 5 O2a, 6 I3, 7 O3a, 8 GND, 9 O4a, 10 I4, 11 O5b, 12 I5, 13 O6b, 14 I6, 15 OEb, 16 VCC

## 74LS368
designator *  value 74LS368  Reference: U
ki_keywords: TTL Buffer BUS 3State; ki_description: Hex Bus Driver inverter, 3-state outputs; ki_fp_filters: DIP?16*; Datasheet: http://www.ti.com/lit/gpn/sn74LS368
pins: 1 OEa, 2 I1, 3 O1a, 4 I2, 5 O2a, 6 I3, 7 O3a, 8 GND, 9 O4a, 10 I4, 11 O5b, 12 I5, 13 O6b, 14 I6, 15 OEb, 16 VCC

## 74LS373
designator *  value 74LS373  Reference: U
ki_keywords: TTL REG DFF DFF8 LATCH; ki_description: 8-bit Latch, 3-state outputs; ki_fp_filters: DIP?20* SOIC?20* SO?20* SSOP?20* TSSOP?20*; Datasheet: http://www.ti.com/lit/gpn/sn74LS373
pins: 1 OE, 2 O0, 3 D0, 4 D1, 5 O1, 6 O2, 7 D2, 8 D3, 9 O3, 10 GND, 11 LE, 12 O4, 13 D4, 14 D5, 15 O5, 16 O6, 17 D6, 18 D7, 19 O7, 20 VCC

## 74LS374
designator *  value 74LS374  Reference: U
ki_keywords: TTL DFF DFF8 REG 3State; ki_description: 8-bit Register, 3-state outputs; ki_fp_filters: DIP?20* SOIC?20* SO?20*; Datasheet: http://www.ti.com/lit/gpn/sn74LS374
pins: 1 OE, 2 O0, 3 D0, 4 D1, 5 O1, 6 O2, 7 D2, 8 D3, 9 O3, 10 GND, 11 Cp, 12 O4, 13 D4, 14 D5, 15 O5, 16 O6, 17 D6, 18 D7, 19 O7, 20 VCC

## 74LS375
designator *  value 74LS375  Reference: U
ki_keywords: TTL DFF DFF4 Latch; ki_description: 4-bit Latch; ki_fp_filters: DIP?16*; Datasheet: http://www.ti.com/lit/gpn/sn74LS375
pins: 1 D0, 2 ~{{Q0}}, 3 Q0, 4 E01, 5 Q1, 6 ~{{Q1}}, 7 D1, 8 GND, 9 D2, 10 ~{{Q2}}, 11 Q2, 12 E23, 13 Q3, 14 ~{{Q3}}, 15 D3, 16 VCC

## 74LS377
designator *  value 74LS377  Reference: U
ki_keywords: TTL REG DFF DFF8; ki_description: 8-bit Register; ki_fp_filters: DIP?20*; Datasheet: http://www.ti.com/lit/gpn/sn74LS377
pins: 1 ~{{E}}, 2 Q0, 3 D0, 4 D1, 5 Q1, 6 Q2, 7 D2, 8 D3, 9 Q3, 10 GND, 11 CP, 12 Q4, 13 D4, 14 D5, 15 Q5, 16 Q6, 17 D6, 18 D7, 19 Q7, 20 VCC

## 74LS378
designator *  value 74LS378  Reference: U
ki_keywords: TTL REG DFF DFF6; ki_description: 6-bit Register; ki_fp_filters: DIP?16*; Datasheet: http://www.ti.com/lit/gpn/sn74LS378
pins: 1 ~{{E}}, 2 Q0, 3 D0, 4 D1, 5 Q1, 6 D2, 7 Q2, 8 GND, 9 C, 10 Q3, 11 D3, 12 Q4, 13 D4, 14 D5, 15 Q5, 16 VCC

## 74LS379
designator *  value 74LS379  Reference: U
ki_keywords: TTL REG DFF DFF4; ki_description: 4-bit Register; ki_fp_filters: DIP?16*; Datasheet: http://www.ti.com/lit/gpn/sn74LS379
pins: 1 ~{{E}}, 2 Q0, 3 ~{{Q0}}, 4 D0, 5 D1, 6 ~{{Q1}}, 7 Q1, 8 GND, 9 CP, 10 Q2, 11 ~{{Q2}}, 12 D2, 13 D3, 14 ~{{Q3}}, 15 Q3, 16 VCC

## 74LS385
designator *  value 74LS385  Reference: U
ki_keywords: TTL ADD Arith ALU; ki_description: Quad serial Adder; ki_fp_filters: DIP?20*; Datasheet: http://www.ti.com/lit/gpn/sn74LS385
pins: 1 Clk, 2 1S, 3 1S/A, 4 1B, 5 1A, 6 2A, 7 2B, 8 2S/A, 9 2S, 10 GND, 11 Clr, 12 3S, 13 3S/A, 14 3B, 15 3A, 16 4A, 17 4B, 18 4S/A, 19 4S, 20 VCC

## 74LS386
designator *  value 74LS386  Reference: U
ki_keywords: TTL XOR2; ki_description: Quad 2-input XOR; ki_fp_filters: DIP*W7.62mm*; Datasheet: http://www.ti.com/lit/gpn/sn74LS386
part A pins: 1, 2, 3
part B pins: 4, 5, 6
part C pins: 8, 9, 10
part D pins: 11, 12, 13
part E pins: 7 GND, 14 VCC

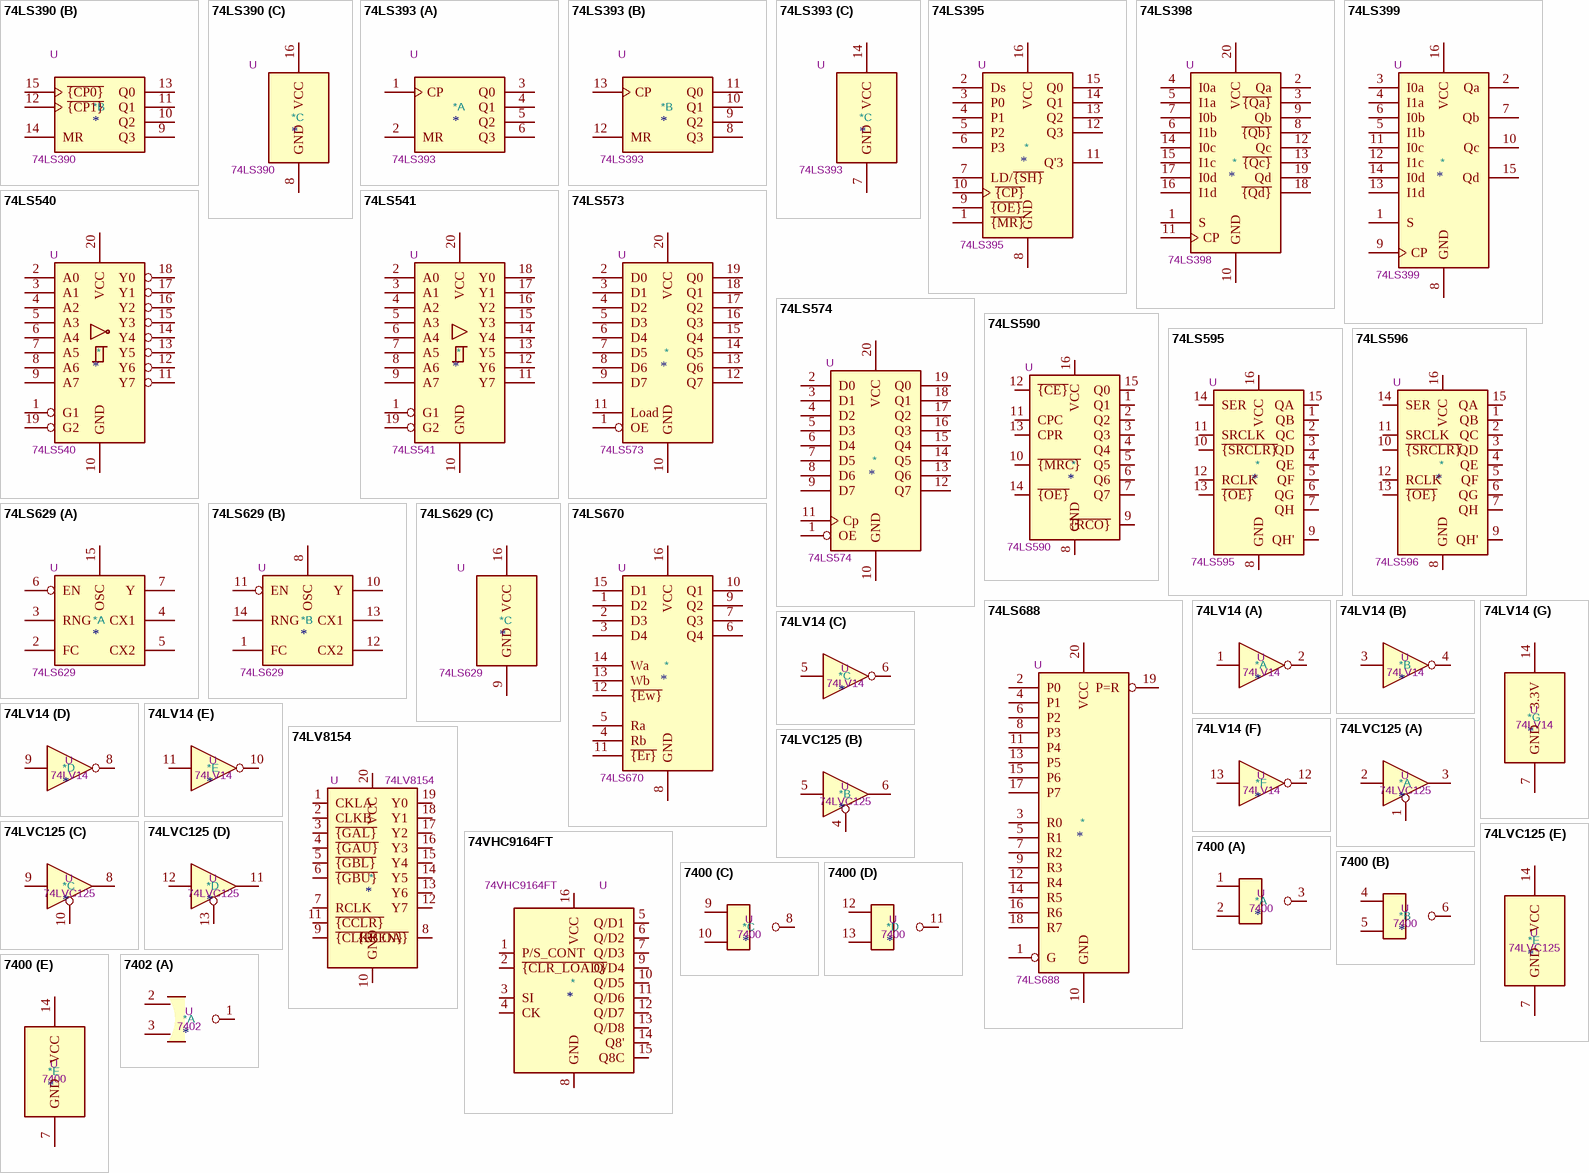
[diagram p12: symbols 74LS390 to 7402]

## 74LS390
designator *  value 74LS390  Reference: U
ki_keywords: TTL CNT CNT4; ki_description: Dual BCD 4-bit counter; ki_fp_filters: DIP?16*; Datasheet: http://www.ti.com/lit/gpn/sn74LS390
part A pins: 1 ~{{CP0}}, 2 MR, 3 Q0, 4 ~{{CP1}}, 5 Q1, 6 Q2, 7 Q3
part B pins: 9 Q3, 10 Q2, 11 Q1, 12 ~{{CP1}}, 13 Q0, 14 MR, 15 ~{{CP0}}
part C pins: 8 GND, 16 VCC

## 74LS393
designator *  value 74LS393  Reference: U
ki_keywords: TTL CNT CNT4; ki_description: Dual BCD 4-bit counter; ki_fp_filters: DIP*W7.62mm*; Datasheet: 74xx\74LS393.pdf
part A pins: 1 CP, 2 MR, 3 Q0, 4 Q1, 5 Q2, 6 Q3
part B pins: 8 Q3, 9 Q2, 10 Q1, 11 Q0, 12 MR, 13 CP
part C pins: 7 GND, 14 VCC

## 74LS395
designator *  value 74LS395  Reference: U
ki_keywords: TTL SR SR4 REG 3State; ki_description: 4-bit universal shift register, 3-state outputs; ki_fp_filters: DIP?16*; Datasheet: http://www.ti.com/lit/gpn/sn74LS395
pins: 1 ~{{MR}}, 2 Ds, 3 P0, 4 P1, 5 P2, 6 P3, 7 LD/~{{SH}}, 8 GND, 9 ~{{OE}}, 10 ~{{CP}}, 11 Q'3, 12 Q3, 13 Q2, 14 Q1, 15 Q0, 16 VCC

## 74LS398
designator *  value 74LS398  Reference: U
ki_keywords: TTL MUX MUX2 3State; ki_description: Quad 2 to 1 line Multiplexer, 3-state outputs; ki_fp_filters: DIP?20*; Datasheet: http://www.ti.com/lit/gpn/sn74LS398
pins: 1 S, 2 Qa, 3 ~{{Qa}}, 4 I0a, 5 I1a, 6 I1b, 7 I0b, 8 ~{{Qb}}, 9 Qb, 10 GND, 11 CP, 12 Qc, 13 ~{{Qc}}, 14 I0c, 15 I1c, 16 I1d, 17 I0d, 18 ~{{Qd}}, 19 Qd, 20 VCC

## 74LS399
designator *  value 74LS399  Reference: U
ki_keywords: TTL MUX MUX2; ki_description: Quad 2 to 1 line multiplexer with storage; ki_fp_filters: DIP?16*; Datasheet: http://www.ti.com/lit/gpn/sn74LS399
pins: 1 S, 2 Qa, 3 I0a, 4 I1a, 5 I1b, 6 I0b, 7 Qb, 8 GND, 9 CP, 10 Qc, 11 I0c, 12 I1c, 13 I1d, 14 I0d, 15 Qd, 16 VCC

## 74LS540
designator *  value 74LS540  Reference: U
ki_keywords: BUFFER BUS TTL 3State; ki_description: 8-bit Buffer/Line driver Inverter, 3-state outputs; ki_fp_filters: DIP?20*; Datasheet: http://www.ti.com/lit/gpn/sn74LS540
pins: 1 G1, 2 A0, 3 A1, 4 A2, 5 A3, 6 A4, 7 A5, 8 A6, 9 A7, 10 GND, 11 Y7, 12 Y6, 13 Y5, 14 Y4, 15 Y3, 16 Y2, 17 Y1, 18 Y0, 19 G2, 20 VCC

## 74LS541
designator *  value 74LS541  Reference: U
ki_keywords: TTL BUFFER 3State BUS; ki_description: 8-bit Buffer/Line Driver 3-state outputs; ki_fp_filters: DIP?20*; Datasheet: http://www.ti.com/lit/gpn/sn74LS541
pins: 1 G1, 2 A0, 3 A1, 4 A2, 5 A3, 6 A4, 7 A5, 8 A6, 9 A7, 10 GND, 11 Y7, 12 Y6, 13 Y5, 14 Y4, 15 Y3, 16 Y2, 17 Y1, 18 Y0, 19 G2, 20 VCC

## 74LS573
designator *  value 74LS573  Reference: U
ki_keywords: TTL DFF DFF8 LATCH 3State; ki_description: 8-bit Latch 3-state outputs; ki_fp_filters: DIP?20*; Datasheet: 74xx/74hc573.pdf
pins: 1 OE, 2 D0, 3 D1, 4 D2, 5 D3, 6 D4, 7 D5, 8 D6, 9 D7, 10 GND, 11 Load, 12 Q7, 13 Q6, 14 Q5, 15 Q4, 16 Q3, 17 Q2, 18 Q1, 19 Q0, 20 VCC

## 74LS574
designator *  value 74LS574  Reference: U
ki_keywords: TTL REG DFF DFF8 3State; ki_description: 8-bit Register, 3-state outputs; ki_fp_filters: DIP?20*; Datasheet: http://www.ti.com/lit/gpn/sn74LS574
pins: 1 OE, 2 D0, 3 D1, 4 D2, 5 D3, 6 D4, 7 D5, 8 D6, 9 D7, 10 GND, 11 Cp, 12 Q7, 13 Q6, 14 Q5, 15 Q4, 16 Q3, 17 Q2, 18 Q1, 19 Q0, 20 VCC

## 74LS590
designator *  value 74LS590  Reference: U
ki_keywords: TTL Counter 3State; ki_description: 8-bit Binary Counter with Output Register 3-State Outputs, DIP-16/SOIC-16/SOIC-16W; ki_fp_filters: DIP*W7.62mm* SOIC*3.9x9.9mm*P1.27mm* TSSOP*4.4x5mm*P0.65mm* SOIC*5.3x10.2mm*P1.27mm* SOIC*7.5x10.3mm*P1.27mm*; Datasheet: http://www.ti.com/lit/gpn/sn74ls590
pins: 1 Q1, 2 Q2, 3 Q3, 4 Q4, 5 Q5, 6 Q6, 7 Q7, 8 GND, 9 ~{{RCO}}, 10 ~{{MRC}}, 11 CPC, 12 ~{{CE}}, 13 CPR, 14 ~{{OE}}, 15 Q0, 16 VCC

## 74LS595
designator *  value 74LS595  Reference: U
ki_keywords: TTL SR 3State; ki_description: 8-bit serial in/out Shift Register 3-State Outputs; ki_fp_filters: DIP*W7.62mm* SOIC*3.9x9.9mm*P1.27mm* TSSOP*4.4x5mm*P0.65mm* SOIC*5.3x10.2mm*P1.27mm* SOIC*7.5x10.3mm*P1.27mm*; Datasheet: http://www.ti.com/lit/gpn/sn74ls595
pins: 1 QB, 2 QC, 3 QD, 4 QE, 5 QF, 6 QG, 7 QH, 8 GND, 9 QH', 10 ~{{SRCLR}}, 11 SRCLK, 12 RCLK, 13 ~{{OE}}, 14 SER, 15 QA, 16 VCC

## 74LS596
designator *  value 74LS596  Reference: U
ki_keywords: HCMOS SR OpenCollector; ki_description: 8-bit serial in/out Shift Register Open Collector outputs; ki_fp_filters: DIP*W7.62mm* SOIC*3.9x9.9mm*P1.27mm* TSSOP*4.4x5mm*P0.65mm* SOIC*5.3x10.2mm*P1.27mm* SOIC*7.5x10.3mm*P1.27mm*; Datasheet: http://www.ti.com/lit/gpn/sn74ls596
pins: 1 QB, 2 QC, 3 QD, 4 QE, 5 QF, 6 QG, 7 QH, 8 GND, 9 QH', 10 ~{{SRCLR}}, 11 SRCLK, 12 RCLK, 13 ~{{OE}}, 14 SER, 15 QA, 16 VCC

## 74LS629
designator *  value 74LS629  Reference: U
ki_keywords: VCO; ki_description: dual voltage-controlled oscillator, enable control, range control; ki_fp_filters: DIP?16*; Datasheet: http://www.ti.com/lit/gpn/sn74LS629
part A pins: 2 FC, 3 RNG, 4 CX1, 5 CX2, 6 EN, 7 Y, 15 OSC
part B pins: 1 FC, 8 OSC, 10 Y, 11 EN, 12 CX2, 13 CX1, 14 RNG
part C pins: 9 GND, 16 VCC

## 74LS670
designator *  value 74LS670  Reference: U
ki_keywords: TTL Register 3State; ki_description: 4 x 4 Register Files 3-State Outputs; ki_fp_filters: DIP?16*; Datasheet: http://www.ti.com/lit/gpn/sn74LS670
pins: 1 D2, 2 D3, 3 D4, 4 Rb, 5 Ra, 6 Q4, 7 Q3, 8 GND, 9 Q2, 10 Q1, 11 ~{{Er}}, 12 ~{{Ew}}, 13 Wb, 14 Wa, 15 D1, 16 VCC

## 74LS688
designator *  value 74LS688  Reference: U
ki_keywords: TTL DECOD Arith; ki_description: 8-bit magnitude comparator; ki_fp_filters: DIP?20* SOIC?20* SO?20* TSSOP?20*; Datasheet: http://www.ti.com/lit/gpn/sn74LS688
pins: 1 G, 2 P0, 3 R0, 4 P1, 5 R1, 6 P2, 7 R2, 8 P3, 9 R3, 10 GND, 11 P4, 12 R4, 13 P5, 14 R5, 15 P6, 16 R6, 17 P7, 18 R7, 19 P=R, 20 VCC

## 74LV14
designator *  value 74LV14  Reference: U
ki_keywords: TTL not inv; ki_description: Hex Inverter; ki_fp_filters: DIP*W7.62mm*; Datasheet: http://www.ti.com/lit/gpn/sn74LV14
part A pins: 1, 2
part B pins: 3, 4
part C pins: 5, 6
part D pins: 8, 9
part E pins: 10, 11
part F pins: 12, 13
part G pins: 7 GND, 14 3.3V

## 74LV8154
designator *  value 74LV8154  Reference: U
ki_keywords: counter binary; ki_description: Dual 16-bit binary counter; ki_fp_filters: TSSOP*4.4x6.5mm*P0.65mm* DIP*W7.62mm*; Datasheet: http://www.ti.com/lit/ds/symlink/sn74lv8154.pdf
pins: 1 CKLA, 2 CLKB, 3 ~{{GAL}}, 4 ~{{GAU}}, 5 ~{{GBL}}, 6 ~{{GBU}}, 7 RCLK, 8 ~{{RCOA}}, 9 ~{{CLKBEN}}, 10 GND, 11 ~{{CCLR}}, 12 Y7, 13 Y6, 14 Y5, 15 Y4, 16 Y3, 17 Y2, 18 Y1, 19 Y0, 20 VCC

## 74LVC125
designator *  value 74LVC125  Reference: U
ki_keywords: TTL buffer 3State; ki_description: Quad buffer 3-State outputs; ki_fp_filters: DIP*W7.62mm*; Datasheet: http://www.ti.com/lit/gpn/sn74LVC125
part A pins: 1, 2, 3
part B pins: 4, 5, 6
part C pins: 8, 9, 10
part D pins: 11, 12, 13
part E pins: 7 GND, 14 VCC

## 74VHC9164FT
designator *  value 74VHC9164FT  Reference: U
ki_keywords: shift register universal serial parallel; ki_description: 8-bit Universal Shift Register, 2V to 5.5V, TSSOP-16; ki_fp_filters: TSSOP*4.4x5mm*P0.65mm*; Footprint: Package_SO:TSSOP-16_4.4x5mm_P0.65mm; Datasheet: https://toshiba.semicon-storage.com/info/docget.jsp?did=15655&prodName=74VHC9164FT
pins: 1 P/S_CONT, 2 ~{{CLR_LOAD}}, 3 SI, 4 CK, 5 Q/D1, 6 Q/D2, 7 Q/D3, 8 GND, 9 Q/D4, 10 Q/D5, 11 Q/D6, 12 Q/D7, 13 Q/D8, 14 Q8', 15 Q8C, 16 VCC

## 7400
designator *  value 7400  Reference: U
ki_keywords: TTL nand 2-input; ki_description: quad 2-input NAND gate; ki_fp_filters: DIP*W7.62mm* SO14*; Datasheet: http://www.ti.com/lit/gpn/sn7400
part A pins: 1, 2, 3
part B pins: 4, 5, 6
part C pins: 8, 9, 10
part D pins: 11, 12, 13
part E pins: 7 GND, 14 VCC
1 alternate drawing of the same symbol

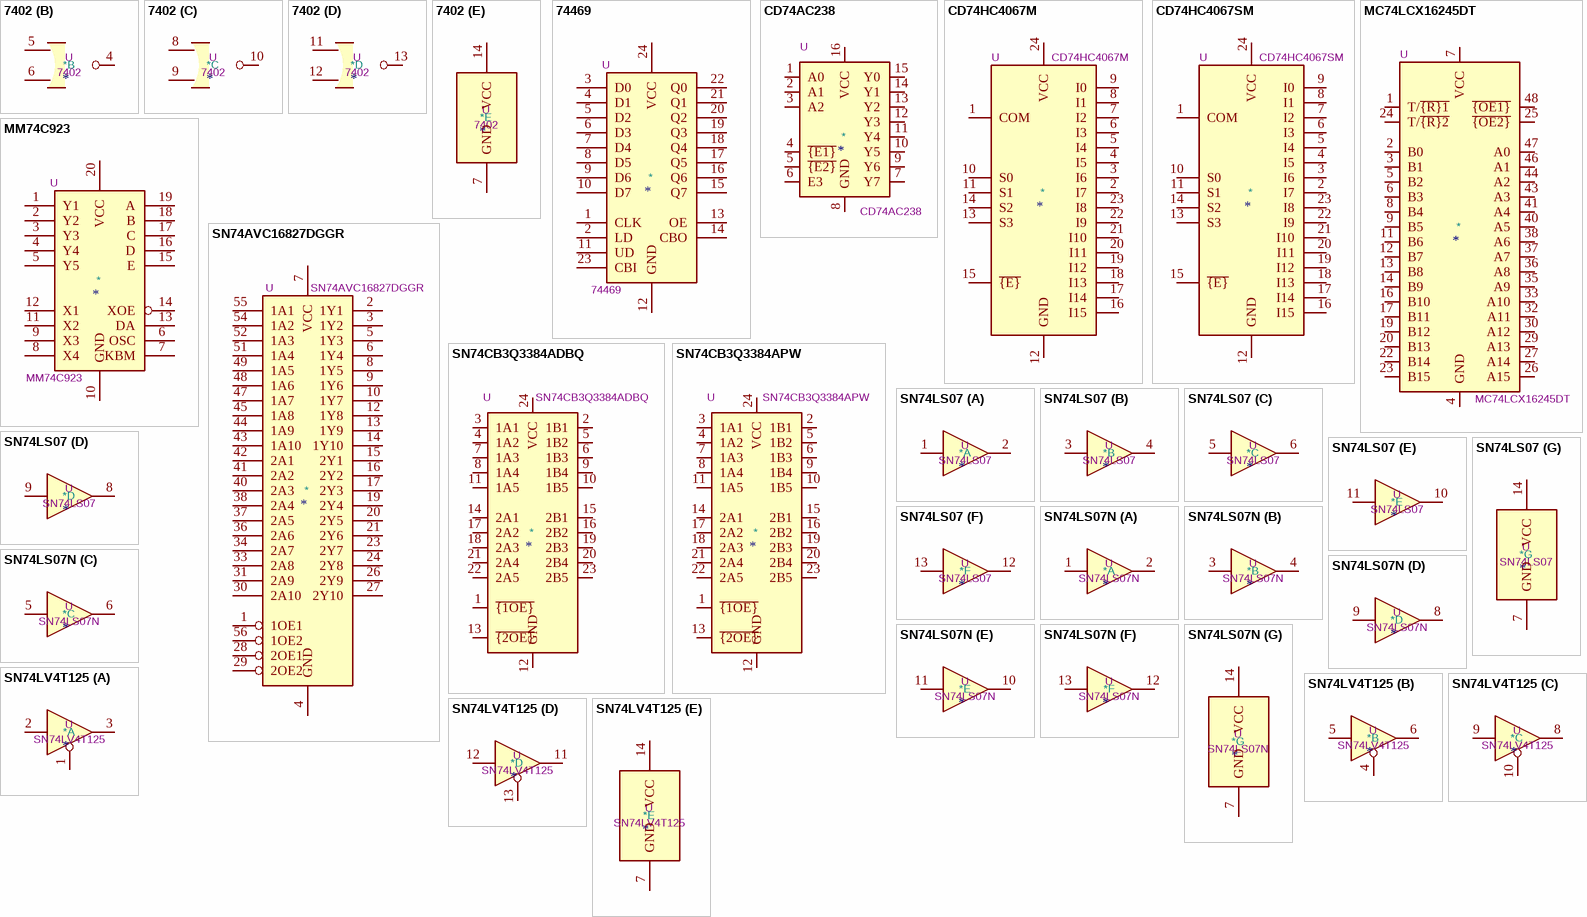
[diagram p13: symbols 7402 to SN74LV4T125]

## 7402
designator *  value 7402  Reference: U
ki_keywords: TTL Nor2; ki_description: quad 2-input NOR gate; ki_fp_filters: SO14* DIP*W7.62mm*; Datasheet: http://www.ti.com/lit/gpn/sn7402
part A pins: 1, 2, 3
part B pins: 4, 5, 6
part C pins: 8, 9, 10
part D pins: 11, 12, 13
part E pins: 7 GND, 14 VCC
1 alternate drawing of the same symbol

## 74469
designator *  value 74469  Reference: U
ki_keywords: counter; ki_description: 8-bit synchronous up/down counter, parallel load and hold capability (obsolete); ki_fp_filters: DIP?24*; Datasheet: http://www.ti.com/lit/gpn/sn74469
pins: 1 CLK, 2 LD, 3 D0, 4 D1, 5 D2, 6 D3, 7 D4, 8 D5, 9 D6, 10 D7, 11 UD, 12 GND, 13 OE, 14 CBO, 15 Q7, 16 Q6, 17 Q5, 18 Q4, 19 Q3, 20 Q2, 21 Q1, 22 Q0, 23 CBI, 24 VCC

## CD74AC238
designator *  value CD74AC238  Reference: U
ki_keywords: demux; ki_description: 3-to-8 line decoder/multiplexer, SOIC-16; ki_fp_filters: SOIC*3.9x9.9mm*P1.27mm*; Datasheet: https://www.ti.com/lit/ds/symlink/cd74ac238.pdf
pins: 1 A0, 2 A1, 3 A2, 4 ~{{E1}}, 5 ~{{E2}}, 6 E3, 7 Y7, 8 GND, 9 Y6, 10 Y5, 11 Y4, 12 Y3, 13 Y2, 14 Y1, 15 Y0, 16 VCC

## CD74HC4067M
designator *  value CD74HC4067M  Reference: U
ki_keywords: multiplexer demultiplexer mux demux; ki_description: High-Speed CMOS Logic 16-Channel Analog Multiplexer/Demultiplexer, SOIC-24; ki_fp_filters: SOIC*W*7.5x15.4mm*P1.27mm*; Footprint: Package_SO:SOIC-24W_7.5x15.4mm_P1.27mm; Datasheet: http://www.ti.com/lit/ds/symlink/cd74hc4067.pdf
pins: 1 COM, 2 I7, 3 I6, 4 I5, 5 I4, 6 I3, 7 I2, 8 I1, 9 I0, 10 S0, 11 S1, 12 GND, 13 S3, 14 S2, 15 ~{{E}}, 16 I15, 17 I14, 18 I13, 19 I12, 20 I11, 21 I10, 22 I9, 23 I8, 24 VCC

## CD74HC4067SM
designator *  value CD74HC4067SM  Reference: U
ki_keywords: multiplexer demultiplexer mux demux; ki_description: High-Speed CMOS Logic 16-Channel Analog Multiplexer/Demultiplexer, SSOP-24; ki_fp_filters: SSOP*5.3x8.2mm*P0.65mm*; Footprint: Package_SO:SSOP-24_5.3x8.2mm_P0.65mm; Datasheet: http://www.ti.com/lit/ds/symlink/cd74hc4067.pdf
pins: 1 COM, 2 I7, 3 I6, 4 I5, 5 I4, 6 I3, 7 I2, 8 I1, 9 I0, 10 S0, 11 S1, 12 GND, 13 S3, 14 S2, 15 ~{{E}}, 16 I15, 17 I14, 18 I13, 19 I12, 20 I11, 21 I10, 22 I9, 23 I8, 24 VCC

## MC74LCX16245DT
designator *  value MC74LCX16245DT  Reference: U
ki_keywords: transceiver; ki_description: Low Voltage 16-Bit Bidirectional Transceiver with 5V Tolerant Inputs and Outputs, TSSOP-48; ki_fp_filters: TSSOP*6.1x12.5mm*P0.5mm*; Footprint: Package_SO:TSSOP-48_6.1x12.5mm_P0.5mm; Datasheet: https://www.onsemi.com/pdf/datasheet/mc74lcx16245-d.pdf
pins: 1 T/~{{R}1}, 2 B0, 3 B1, 4 GND, 5 B2, 6 B3, 7 VCC, 8 B4, 9 B5, 10 GND hidden, 11 B6, 12 B7, 13 B8, 14 B9, 15 GND hidden, 16 B10, 17 B11, 18 VCC hidden, 19 B12, 20 B13, 21 GND hidden, 22 B14, 23 B15, 24 T/~{{R}2}, 25 ~{{OE2}}, 26 A15, 27 A14, 28 GND hidden, 29 A13, 30 A12, 31 VCC hidden, 32 A11, 33 A10, 34 GND hidden, 35 A9, 36 A8, 37 A7, 38 A6, 39 GND hidden, 40 A5, 41 A4, 42 VCC hidden, 43 A3, 44 A2, 45 GND hidden, 46 A1, 47 A0, 48 ~{{OE1}}

## MM74C923
designator *  value MM74C923  Reference: U
ki_keywords: encoder; ki_description: 20-key encoder; ki_fp_filters: DIP?20*; Datasheet: http://www.ti.com/lit/gpn/snMM74C923
pins: 1 Y1, 2 Y2, 3 Y3, 4 Y4, 5 Y5, 6 OSC, 7 KBM, 8 X4, 9 X3, 10 GND, 11 X2, 12 X1, 13 DA, 14 XOE, 15 E, 16 D, 17 C, 18 B, 19 A, 20 VCC

## SN74AVC16827DGGR
designator *  value SN74AVC16827DGGR  Reference: U
ki_keywords: Buffer Driver 3-State; ki_description: 20-Bit Buffer/Driver With 3-State Outputs; ki_fp_filters: TSSOP*6.1x14mm*P0.5mm*; Footprint: Package_SO:TSSOP-56_6.1x14mm_P0.5mm; Datasheet: http://www.ti.com/lit/ds/symlink/sn74avc16827.pdf
pins: 1 1OE1, 2 1Y1, 3 1Y2, 4 GND, 5 1Y3, 6 1Y4, 7 VCC, 8 1Y5, 9 1Y6, 10 1Y7, 11 GND hidden, 12 1Y8, 13 1Y9, 14 1Y10, 15 2Y1, 16 2Y2, 17 2Y3, 18 GND hidden, 19 2Y4, 20 2Y5, 21 2Y6, 22 VCC hidden, 23 2Y7, 24 2Y8, 25 GND hidden, 26 2Y9, 27 2Y10, 28 2OE1, 29 2OE2, 30 2A10, 31 2A9, 32 GND hidden, 33 2A8, 34 2A7, 35 VCC hidden, 36 2A6, 37 2A5, 38 2A4, 39 GND hidden, 40 2A3, 41 2A2, 42 2A1, 43 1A10, 44 1A9, 45 1A8, 46 GND hidden, 47 1A7, 48 1A6, 49 1A5, 50 VCC hidden, 51 1A4, 52 1A3, 53 GND hidden, 54 1A2, 55 1A1, 56 1OE2

## SN74CB3Q3384ADBQ
designator *  value SN74CB3Q3384ADBQ  Reference: U
ki_keywords: low voltage high bandwidth; ki_description: FET Bus Switch, 10bit, 500MHz, 3.3V, SSOP-24; ki_fp_filters: SSOP*3.9x8.7mm*P0.635mm*; Footprint: Package_SO:SSOP-24_3.9x8.7mm_P0.635mm; Datasheet: https://www.ti.com/lit/ds/symlink/sn74cb3q3384a.pdf?ts=1634790233466
pins: 1 ~{{1OE}}, 2 1B1, 3 1A1, 4 1A2, 5 1B2, 6 1B3, 7 1A3, 8 1A4, 9 1B4, 10 1B5, 11 1A5, 12 GND, 13 ~{{2OE}}, 14 2A1, 15 2B1, 16 2B2, 17 2A2, 18 2A3, 19 2B3, 20 2B4, 21 2A4, 22 2A5, 23 2B5, 24 VCC

## SN74CB3Q3384APW
designator *  value SN74CB3Q3384APW  Reference: U
ki_keywords: low voltage high bandwidth; ki_description: FET Bus Switch, 10bit, 500MHz, 3.3V, TSSOP-24; ki_fp_filters: TSSOP*4.4x7.8mm*P0.65mm*; Footprint: Package_SO:TSSOP-24_4.4x7.8mm_P0.65mm; Datasheet: https://www.ti.com/lit/ds/symlink/sn74cb3q3384a.pdf?ts=1634790233466
pins: 1 ~{{1OE}}, 2 1B1, 3 1A1, 4 1A2, 5 1B2, 6 1B3, 7 1A3, 8 1A4, 9 1B4, 10 1B5, 11 1A5, 12 GND, 13 ~{{2OE}}, 14 2A1, 15 2B1, 16 2B2, 17 2A2, 18 2A3, 19 2B3, 20 2B4, 21 2A4, 22 2A5, 23 2B5, 24 VCC

## SN74LS07
designator *  value SN74LS07  Reference: U
ki_keywords: TTL hex buffer OpenCol; ki_description: Hex Buffers and Drivers With Open Collector High Voltage Outputs; ki_fp_filters: SOIC*3.9x8.7mm*P1.27mm* TSSOP*4.4x5mm*P0.65mm* DIP*W7.62mm*; Datasheet: www.ti.com/lit/ds/symlink/sn74ls07.pdf
part A pins: 1, 2
part B pins: 3, 4
part C pins: 5, 6
part D pins: 8, 9
part E pins: 10, 11
part F pins: 12, 13
part G pins: 7 GND, 14 VCC

## SN74LS07N
designator *  value SN74LS07N  Reference: U
ki_keywords: TTL hex buffer OpenCol; ki_description: Hex Buffers and Drivers With Open Collector High Voltage Outputs; ki_fp_filters: SOIC*3.9x8.7mm*P1.27mm* TSSOP*4.4x5mm*P0.65mm* DIP*W7.62mm*; Datasheet: www.ti.com/lit/ds/symlink/sn74ls07.pdf
part A pins: 1, 2
part B pins: 3, 4
part C pins: 5, 6
part D pins: 8, 9
part E pins: 10, 11
part F pins: 12, 13
part G pins: 7 GND, 14 VCC

## SN74LV4T125
designator *  value SN74LV4T125  Reference: U
ki_keywords: 3State CMOS shifter translator; ki_description: Single Supply Logic Level Translator Quad Buffer with 3-State Outputs; ki_fp_filters: DIP*W7.62mm*; Datasheet: https://www.ti.com/lit/ds/symlink/sn74lv4t125.pdf
part A pins: 1, 2, 3
part B pins: 4, 5, 6
part C pins: 8, 9, 10
part D pins: 11, 12, 13
part E pins: 7 GND, 14 VCC